# Altium schematic symbol library MAX4932ETD&plus_T.SchLib: 1 symbol
Pins are listed as number, name and electrical type; pins without a type are passive.

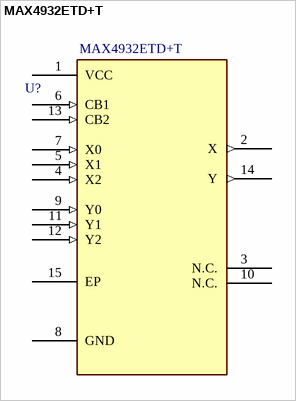
[diagram p0: symbol MAX4932ETD+T]

## MAX4932ETD+T
designator U?
No Description Available; Mfr_Name: Analog Devices Inc; RefDes: RefDes; Type: Type; Supplier 1: Mouser; Supplier Part Number 1: 700-MAX4932ETDT
footprint 21-0137_T1433+2_MXM
pins: 1 VCC (power), 2 X (out), 3 N.C., 4 X2 (in), 5 X1 (in), 6 CB1 (in), 7 X0 (in), 8 GND (power), 9 Y0 (in), 10 N.C., 11 Y1 (in), 12 Y2 (in), 13 CB2 (in), 14 Y (out), 15 EP